# Altium schematic symbol library ESP32-C3-WROOM-02-N4.SchLib: 1 symbol
Pins are listed as number, name and electrical type; pins without a type are passive.

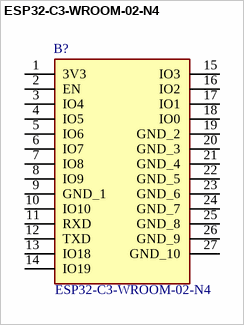
[diagram p0: symbol ESP32-C3-WROOM-02-N4]

## ESP32-C3-WROOM-02-N4
designator B?
WiFi Modules (802.11) (Engineering Samples) SMD module, ESP32-C3, 4MB SPI flash, PCB antenna, -40 C +85 C; Manufacturer_Name: Espressif Systems; Geometry.Height: 3.35mm; Mouser Part Number: 356-ESP32C3WROOM02N4; Mouser Price/Stock: https://www.mouser.co.uk/ProductDetail/Espressif-Systems/ESP32-C3-WROOM-02-N4?qs=stqOd1AaK7%2FqjTZKEOgfUg%3D%3D; Manufacturer_Part_Number: ESP32-C3-WROOM-02-N4; Datasheet Link: https://www.mouser.ch/datasheet/2/891/Espressif_ESP32_C3_WROOM_02-2006871.pdf
footprint ESP32C3WROOM02N4
pins: 1 3V3, 2 EN, 3 IO4, 4 IO5, 5 IO6, 6 IO7, 7 IO8, 8 IO9, 9 GND_1, 10 IO10, 11 RXD, 12 TXD, 13 IO18, 14 IO19, 15 IO3, 16 IO2, 17 IO1, 18 IO0, 19 GND_2, 20 GND_3, 21 GND_4, 22 GND_5, 23 GND_6, 24 GND_7, 25 GND_8, 26 GND_9, 27 GND_10